# EAGLE library part CON_02X15 (library PP_Connectors)
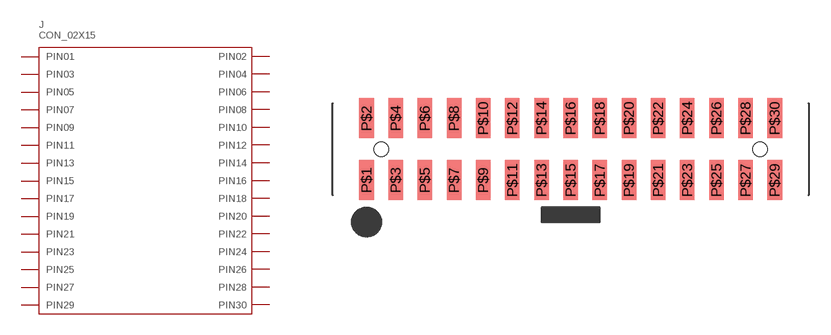
[diagram p13: symbol with the pads of 87832-6422; footprint 87832-6422]

Designator prefix J

## CON_02X15_87832-6422 (POPULATE: 1)  [87832-6422]
P$1  PIN0
P$2  PIN1
P$3  PIN2
P$4  PIN3
P$5  PIN4
P$6  PIN5
P$7  PIN6
P$8  PIN7
P$9  PIN8
P$10  PIN9
P$11  PIN10
P$12  PIN11
P$13  PIN12
P$14  PIN13
P$15  PIN14
P$16  PIN15
P$17  PIN16
P$18  PIN17
P$19  PIN18
P$20  PIN19
P$21  PIN20
P$22  PIN21
P$23  PIN22
P$24  PIN23
P$25  PIN24
P$26  PIN25
P$27  PIN26
P$28  PIN27
P$29  PIN28
P$30  PIN29

## Footprint 87832-6422 (pad centres in mm)
smd 1 x 2.75: P$1 -14,-2.125; P$2 -14,2.125; P$3 -12,-2.125; P$4 -12,2.125; P$5 -10,-2.125; P$6 -10,2.125; P$7 -8,-2.125; P$8 -8,2.125; P$9 -6,-2.125; P$10 -6,2.125; P$11 -4,-2.125; P$12 -4,2.125; P$13 -2,-2.125; P$14 -2,2.125; P$15 0,-2.125; P$16 0,2.125; P$17 2,-2.125; P$18 2,2.125; P$19 4,-2.125; P$20 4,2.125; P$21 6,-2.125; P$22 6,2.125; P$23 8,-2.125; P$24 8,2.125; P$25 10,-2.125; P$26 10,2.125; P$27 12,-2.125; P$28 12,2.125; P$29 14,-2.125; P$30 14,2.125
hole 1 at -13,0
hole 1 at 13,0